# EAGLE library part SPARKFUN-CONNECTORS_M08 (library SmoothieBrainz - next round)
Header 8 Standard 8-pin 0.1" header. Use with straight break away headers (SKU : PRT-00116), right angle break away headers (PRT-00553), swiss pins (PRT-00743), machine pins (PRT-00117), and female headers (PRT-00115).
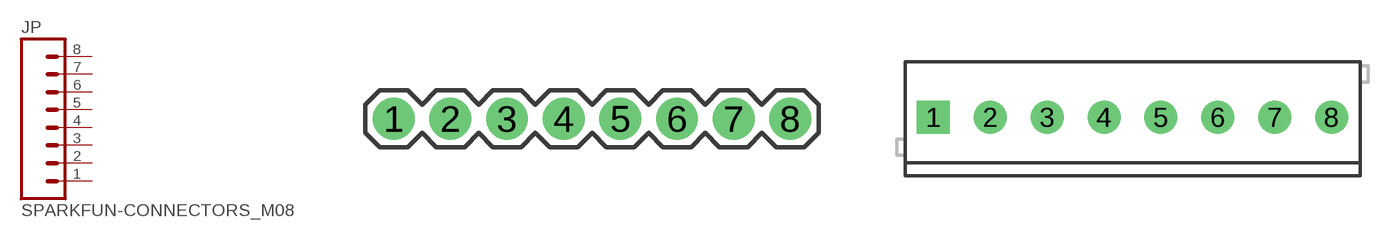
[diagram p2: symbol with the pads of SPARKFUN-CONNECTORS_1X08_ROUND; footprints SPARKFUN-CONNECTORS_1X08_ROUND, SPARKFUN-CONNECTORS_SCREWTERMINAL-3.5MM-8]

Designator prefix JP

## SPARKFUN-CONNECTORS_M08  [SPARKFUN-CONNECTORS_1X08_ROUND]
1  1  pas
2  2  pas
3  3  pas
4  4  pas
5  5  pas
6  6  pas
7  7  pas
8  8  pas

## SPARKFUN-CONNECTORS_M083.5MM-8  [SPARKFUN-CONNECTORS_SCREWTERMINAL-3.5MM-8]
Pads as for SPARKFUN-CONNECTORS_1X08_ROUND

## SPARKFUN-CONNECTORS_M08BM08B-SRSS-TB  [SPARKFUN-CONNECTORS_BM08B-SRSS-TB]
Pads as for SPARKFUN-CONNECTORS_1X08_ROUND

## SPARKFUN-CONNECTORS_M08FEMALE_LOCK  [SPARKFUN-CONNECTORS_1X08_FEMALE_LOCK]
Pads as for SPARKFUN-CONNECTORS_1X08_ROUND

## SPARKFUN-CONNECTORS_M08LOCK  [SPARKFUN-CONNECTORS_1X08_LOCK]
Pads as for SPARKFUN-CONNECTORS_1X08_ROUND

## SPARKFUN-CONNECTORS_M08LOCK_LONGPADS  [SPARKFUN-CONNECTORS_1X08_LOCK_LONGPADS]
Pads as for SPARKFUN-CONNECTORS_1X08_ROUND

## SPARKFUN-CONNECTORS_M08LOCK_NO_SILK  [SPARKFUN-CONNECTORS_1X08_LOCK_NO_SILK]
Pads as for SPARKFUN-CONNECTORS_1X08_ROUND

## SPARKFUN-CONNECTORS_M08LONGPADS  [SPARKFUN-CONNECTORS_1X08_LONGPADS]
Pads as for SPARKFUN-CONNECTORS_1X08_ROUND

## SPARKFUN-CONNECTORS_M08NO_SILK  [SPARKFUN-CONNECTORS_1X08_PIN1_NO_SILK]
Pads as for SPARKFUN-CONNECTORS_1X08_ROUND

## SPARKFUN-CONNECTORS_M08NO_SILK_FEMALE_PTH (PROD_ID: CONN-08438)  [SPARKFUN-CONNECTORS_1X08_NO_SILK]
Pads as for SPARKFUN-CONNECTORS_1X08_ROUND

## SPARKFUN-CONNECTORS_M08SILK_FEMALE_PTH (PROD_ID: CONN-08438)  [SPARKFUN-CONNECTORS_1X08]
Pads as for SPARKFUN-CONNECTORS_1X08_ROUND

## SPARKFUN-CONNECTORS_M08SMD-COMBO-FEMALE (PROD_ID: CONN-10204)  [SPARKFUN-CONNECTORS_1X08_SMD_COMBINED]
Pads as for SPARKFUN-CONNECTORS_1X08_ROUND

## SPARKFUN-CONNECTORS_M08SMD-MALE (PROD_ID: CONN-11292)  [SPARKFUN-CONNECTORS_1X08_SMD_MALE]
Pads as for SPARKFUN-CONNECTORS_1X08_ROUND

## SPARKFUN-CONNECTORS_M08SMD-STRAIGHT-ALT-FEMALE (PROD_ID: CONN-10204)  [SPARKFUN-CONNECTORS_1X08_SMD_ALT]
Pads as for SPARKFUN-CONNECTORS_1X08_ROUND

## SPARKFUN-CONNECTORS_M08SMD-STRAIGHT-FEMALE (PROD_ID: CONN-10204)  [SPARKFUN-CONNECTORS_1X08_SMD]
Pads as for SPARKFUN-CONNECTORS_1X08_ROUND

## Footprint SPARKFUN-CONNECTORS_1X08_ROUND (pad centres in mm)
drill 1.016 pad 1.88: 1 0,0; 2 2.54,0; 3 5.08,0; 4 7.62,0; 5 10.16,0; 6 12.7,0; 7 15.24,0; 8 17.78,0

## Footprint SPARKFUN-CONNECTORS_SCREWTERMINAL-3.5MM-8 (pad centres in mm)
drill 1.2 pad 2.032 square: 1 0,0
drill 1.2 pad 2.032: 2 3.5,0; 3 7,0; 4 10.5,0; 5 14,0; 6 17.5,0; 7 21,0; 8 24.5,0

## Footprint SPARKFUN-CONNECTORS_BM08B-SRSS-TB (pad centres in mm)
JST crimp connector: 1mm pitch, top entry
smd 0.6 x 1.55: 1 -3.5,0; 2 -2.5,0; 3 -1.5,0; 4 -0.5,0; 5 0.5,0; 6 1.5,0; 7 2.5,0; 8 3.5,0
smd 1.2 x 1.8: P$9 4.8,2.525; P$10 -4.8,2.525

## Footprint SPARKFUN-CONNECTORS_1X08_FEMALE_LOCK (pad centres in mm)
drill 1.016: 1 0,0.229; 2 2.54,-0.229; 3 5.08,0.229; 4 7.62,-0.229; 5 10.16,0.229; 6 12.7,-0.229; 7 15.24,0.229; 8 17.78,-0.229

## Footprint SPARKFUN-CONNECTORS_1X08_LOCK (pad centres in mm)
drill 1.016 pad 1.88 square: 1 0,0.127
drill 1.016 pad 1.88: 2 2.54,-0.127; 3 5.08,0.127; 4 7.62,-0.127; 5 10.16,0.127; 6 12.7,-0.127; 7 15.24,0.127; 8 17.78,-0.127

## Footprint SPARKFUN-CONNECTORS_1X08_LOCK_LONGPADS (pad centres in mm)
drill 1.016 long: 1 0,0.127; 2 2.54,-0.127; 3 5.08,0.127; 4 7.62,-0.127; 5 10.16,0.127; 6 12.7,-0.127; 7 15.24,0.127; 8 17.78,-0.127

## Footprint SPARKFUN-CONNECTORS_1X08_LOCK_NO_SILK (pad centres in mm)
drill 1.016 pad 1.88: 1 0,0.127; 2 2.54,-0.127; 3 5.08,0.127; 4 7.62,-0.127; 5 10.16,0.127; 6 12.7,-0.127; 7 15.24,0.127; 8 17.78,-0.127

## Footprint SPARKFUN-CONNECTORS_1X08_LONGPADS (pad centres in mm)
drill 1.118 pad 1.88 long: 1 0,0; 2 2.54,0; 3 5.08,0; 4 7.62,0; 5 10.16,0; 6 12.7,0; 7 15.24,0; 8 17.78,0

## Footprint SPARKFUN-CONNECTORS_1X08_PIN1_NO_SILK (pad centres in mm)
drill 1.016 pad 1.88 square: 1 0,0
drill 1.016 pad 1.88: 2 2.54,0; 3 5.08,0; 4 7.62,0; 5 10.16,0; 6 12.7,0; 7 15.24,0; 8 17.78,0

## Footprint SPARKFUN-CONNECTORS_1X08_NO_SILK (pad centres in mm)
drill 1.016 pad 1.88: 1 0,0; 2 2.54,0; 3 5.08,0; 4 7.62,0; 5 10.16,0; 6 12.7,0; 7 15.24,0; 8 17.78,0

## Footprint SPARKFUN-CONNECTORS_1X08 (pad centres in mm)
drill 1.016 pad 1.88 square: 1 0,0
drill 1.016 pad 1.88: 2 2.54,0; 3 5.08,0; 4 7.62,0; 5 10.16,0; 6 12.7,0; 7 15.24,0; 8 17.78,0

## Footprint SPARKFUN-CONNECTORS_1X08_SMD_COMBINED (pad centres in mm)
smd 1 x 2: 1 0,1.65; 1@2 0,-1.65; 2 2.54,-1.65; 2@2 2.54,1.65; 3 5.08,1.65; 3@2 5.08,-1.65; 4 7.62,-1.65; 4@2 7.62,1.65; 5 10.16,1.65; 5@2 10.16,-1.65; 6 12.7,-1.65; 6@2 12.7,1.65; 7 15.24,1.65; 7@2 15.24,-1.65; 8 17.78,-1.65; 8@2 17.78,1.65

## Footprint SPARKFUN-CONNECTORS_1X08_SMD_MALE (pad centres in mm)
smd 1.02 x 6: 1 0,0; 2 2.54,0; 3 5.08,0; 4 7.62,0; 5 10.16,0; 6 12.7,0; 7 15.24,0; 8 17.78,0

## Footprint SPARKFUN-CONNECTORS_1X08_SMD_ALT (pad centres in mm)
smd 1 x 2: 1 0,-1.65; 2 -2.54,1.65; 3 -5.08,-1.65; 4 -7.62,1.65; 5 -10.16,-1.65; 6 -12.7,1.65; 7 -15.24,-1.65; 8 -17.78,1.65

## Footprint SPARKFUN-CONNECTORS_1X08_SMD (pad centres in mm)
smd 1 x 2: 1 0,1.65; 2 -2.54,-1.65; 3 -5.08,1.65; 4 -7.62,-1.65; 5 -10.16,1.65; 6 -12.7,-1.65; 7 -15.24,1.65; 8 -17.78,-1.65